# Altium schematic symbol library LM324DR2G.SchLib: 2 symbols
Pins are listed as number, name and electrical type; pins without a type are passive.

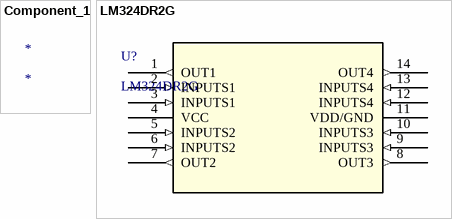
[diagram p0: symbols Component_1 to LM324DR2G]

## Component_1
designator *

## LM324DR2G
designator U?
No Description Available; Mfr_Name: onsemi; Copyright: Copyright (C) 2022 Ultra Librarian. All rights reserved.; Manufacturer_Part_Number: LM324DR2G; Digi-Key_Part_Number_1: 2156-LM324DR2G-OS-ND; Digi-Key_Part_Number_2: =LM324DR2G; Digi-Key_Part_Number_3: LM324DR2GOSCT-ND; Digi-Key_Part_Number_4: LM324DR2GOSDKR-ND; Digi-Key_Part_Number_5: LM324DR2GOSTR-ND; RefDes: RefDes; Type: DEV
footprint SOIC-14_NB_ONS
pins: 1 OUT1 (out), 2 INPUTS1 (in), 3 INPUTS1 (in), 4 VCC (power), 5 INPUTS2 (in), 6 INPUTS2 (in), 7 OUT2 (out), 8 OUT3 (out), 9 INPUTS3 (in), 10 INPUTS3 (in), 11 VDD/GND (power), 12 INPUTS4 (in), 13 INPUTS4 (in), 14 OUT4 (out)